# Altium schematic symbol library Resistor.SchLib: 24 symbols
Pins are listed as number, name and electrical type; pins without a type are passive.

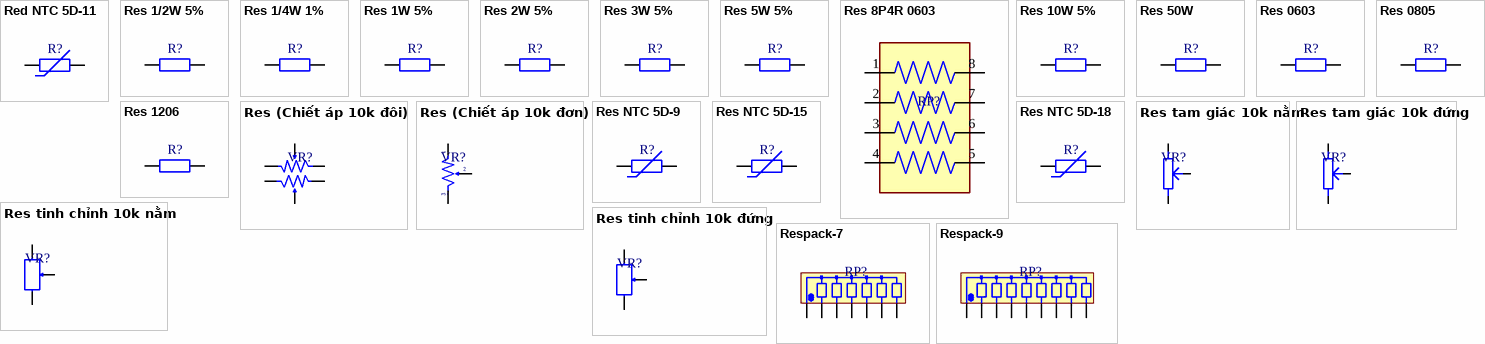
[diagram p0: symbols Red NTC 5D-11 to Respack-9]

## Red NTC 5D-11
designator R?, comment NTC 5D-11  (value not drawn)
DIP
footprint NTC 5D-11
pins: 1, 2

## Res 1/2W 5%
designator R?, comment 1/2W  (value not drawn)
DIP
footprint Res 1/2W
pins: 1, 2

## Res 1/4W 1%
designator R?  (value not drawn)
DIP
footprint Res 1/4W
pins: 1, 2

## Res 1W 5%
designator R?  (value not drawn)
DIP
footprint Res 1W
pins: 1, 2

## Res 2W 5%
designator R?  (value not drawn)
DIP
footprint Res 2W
pins: 1, 2

## Res 3W 5%
designator R?  (value not drawn)
DIP
footprint Res 3W
pins: 1, 2

## Res 5W 5%
designator R?  (value not drawn)
DIP
footprint Res 5W
pins: 1, 2

## Res 8P4R 0603
designator RP?, comment Res network 0603 8P4R  (value not drawn)
SMD
footprint Res-pack 8P4R 0603
pins: 1, 2, 3, 4, 5, 6, 7, 8

## Res 10W 5%
designator R?  (value not drawn)
DIP
footprint Res 10W
pins: 1, 2

## Res 50W
designator R?  (value not drawn)
DIP
footprint Res 50W
pins: 1, 2

## Res 0603
designator R?, comment 0603  (value not drawn)
SMD
footprint Res 0603
pins: 1, 2

## Res 0805
designator R?, comment 0805  (value not drawn)
SMD
footprint Res 0805
pins: 1, 2

## Res 1206
designator R?, comment 1206  (value not drawn)
SMD
footprint Res 1206
pins: 1, 2

## Res (Chiết áp 10k đôi)
designator VR?  (value not drawn)
DIP
footprint Chiet ap doi
pins: 1, 2, 3, 4, 5, 6

## Res (Chiết áp 10k đơn)
designator VR?
DIP
footprint Chiet ap don
pins: 1, 2, 3

## Res NTC 5D-9
designator R?, comment NTC 5D-9  (value not drawn)
DIP
footprint NTC 5D-9
pins: 1, 2

## Res NTC 5D-15
designator R?, comment NTC 5D-15  (value not drawn)
DIP
footprint NTC 5D-15
pins: 1, 2

## Res NTC 5D-18
designator R?, comment NTC 5D-18  (value not drawn)
DIP
footprint NTC 5D-18
pins: 1, 2

## Res tam giác 10k nằm
designator VR?, comment RM063-103  (value not drawn)
DIP
footprint Res tam giac nam
pins: 1, 2, 3

## Res tam giác 10k đứng
designator VR?, comment RM065-103  (value not drawn)
DIP
footprint Res tam giac dung
pins: 1, 2, 3

## Res tinh chỉnh 10k nằm
designator VR?, comment 3296W-103  (value not drawn)
DIP
footprint Res tinh chinh nam
pins: 1, 2, 3

## Res tinh chỉnh 10k đứng
designator VR?, comment 3296W-1-103  (value not drawn)
DIP
footprint Res tinh chinh dung
pins: 1, 2, 3

## Respack-7
designator RP?, comment 7 res  (value not drawn)
DIP
footprint Respack-7
pins: 1, 2, 3, 4, 5, 6, 7

## Respack-9
designator RP?, comment 9 res  (value not drawn)
DIP
footprint Respack-9
pins: 1, 2, 3, 4, 5, 6, 7, 8, 9